# Altium schematic symbol library LDQ-M516RI.SchLib: 1 symbol
Pins are listed as number, name and electrical type; pins without a type are passive.

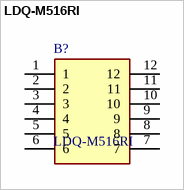
[diagram p0: symbol LDQ-M516RI]

## LDQ-M516RI
designator B?
LUMEX - LDQ-M516RI - DISPLAY, SEVEN SEGMENT, 14.22MM, RED; Geometry.Height: 8mm; Manufacturer_Name: Lumex; Manufacturer_Part_Number: LDQ-M516RI; Mouser Part Number: 696-LDQ-M516RI; Mouser Price/Stock: https://www.mouser.co.uk/ProductDetail/Lumex/LDQ-M516RI?qs=9HInCHf8eFiP65wRDvMeEg%3D%3D; Arrow Part Number: LDQ-M516RI; Arrow Price/Stock: https://www.arrow.com/en/products/ldq-m516ri/lumex?region=nac; Datasheet Link: https://www.lumex.com/spec/LDQ-M516RI.pdf
footprint DIPS1524W50P254L5030H800Q12N
pins: 1, 2, 3, 4, 5, 6, 7, 8, 9, 10, 11, 12